# Altium integrated library RF Inductors-RFI_rev16a.intlib: 36 symbols
Pins are listed as number, name and electrical type; pins without a type are passive.

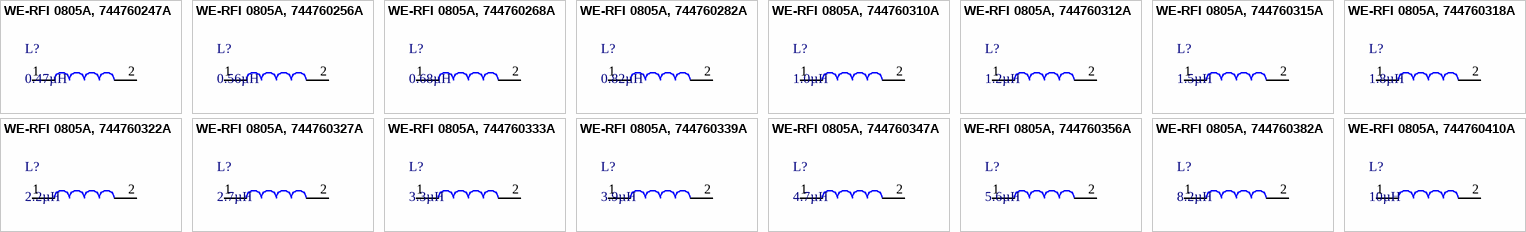
[diagram p0: symbols WE-RFI 0805A, 744760247A to WE-RFI 0805A, 744760410A]

## WE-RFI 0805A, 744760247A
designator L?, comment 0.47µH
WE-RFI Ferrite SMD Inductor, L= 0.47µH; partNo: 744760247A; Manufacturer: Wurth Elektronik; Inductance: 0.47µH; ComponentLink1Description: Manufacturer; ComponentLink1URL: http://www.we-online.de; Created by: Baojun Chen; Created Date: Jan.2016; ComponentLink2Description: Datasheet; ComponentLink2URL: http://katalog.we-online.de/pbs/datasheet/744760247A.pdf
footprint WE-RFI_0805A
pins: 1, 2

## WE-RFI 0805A, 744760256A
designator L?, comment 0.56µH
WE-RFI Ferrite SMD Inductor, L= 0.56µH; partNo: 744760256A; Manufacturer: Wurth Elektronik; Inductance: 0.56µH; ComponentLink1Description: Manufacturer; ComponentLink1URL: http://www.we-online.de; Created by: Baojun Chen; Created Date: Jan.2016; ComponentLink2Description: Datasheet; ComponentLink2URL: http://katalog.we-online.de/pbs/datasheet/744760256A.pdf
footprint WE-RFI_0805A
pins: 1, 2

## WE-RFI 0805A, 744760268A
designator L?, comment 0.68µH
WE-RFI Ferrite SMD Inductor, L= 0.68µH; partNo: 744760268A; Manufacturer: Wurth Elektronik; Inductance: 0.68µH; ComponentLink1Description: Manufacturer; ComponentLink1URL: http://www.we-online.de; Created by: Baojun Chen; Created Date: Jan.2016; ComponentLink2Description: Datasheet; ComponentLink2URL: http://katalog.we-online.de/pbs/datasheet/744760268A.pdf
footprint WE-RFI_0805A
pins: 1, 2

## WE-RFI 0805A, 744760282A
designator L?, comment 0.82µH
WE-RFI Ferrite SMD Inductor, L= 0.82µH; partNo: 744760282A; Manufacturer: Wurth Elektronik; Inductance: 0.82µH; ComponentLink1Description: Manufacturer; ComponentLink1URL: http://www.we-online.de; Created by: Baojun Chen; Created Date: Jan.2016; ComponentLink2Description: Datasheet; ComponentLink2URL: http://katalog.we-online.de/pbs/datasheet/744760282A.pdf
footprint WE-RFI_0805A
pins: 1, 2

## WE-RFI 0805A, 744760310A
designator L?, comment 1.0µH
WE-RFI Ferrite SMD Inductor, L= 1.0µH; partNo: 744760310A; Manufacturer: Wurth Elektronik; Inductance: 1.0µH; ComponentLink1Description: Manufacturer; ComponentLink1URL: http://www.we-online.de; Created by: Baojun Chen; Created Date: Jan.2016; ComponentLink2Description: Datasheet; ComponentLink2URL: http://katalog.we-online.de/pbs/datasheet/744760310A.pdf
footprint WE-RFI_0805A
pins: 1, 2

## WE-RFI 0805A, 744760312A
designator L?, comment 1.2µH
WE-RFI Ferrite SMD Inductor, L= 1.2µH; partNo: 744760312A; Manufacturer: Wurth Elektronik; Inductance: 1.2µH; ComponentLink1Description: Manufacturer; ComponentLink1URL: http://www.we-online.de; Created by: Baojun Chen; Created Date: Jan.2016; ComponentLink2Description: Datasheet; ComponentLink2URL: http://katalog.we-online.de/pbs/datasheet/744760312A.pdf
footprint WE-RFI_0805A
pins: 1, 2

## WE-RFI 0805A, 744760315A
designator L?, comment 1.5µH
WE-RFI Ferrite SMD Inductor, L= 1.5µH; partNo: 744760315A; Manufacturer: Wurth Elektronik; Inductance: 1.5µH; ComponentLink1Description: Manufacturer; ComponentLink1URL: http://www.we-online.de; Created by: Baojun Chen; Created Date: Jan.2016; ComponentLink2Description: Datasheet; ComponentLink2URL: http://katalog.we-online.de/pbs/datasheet/744760315A.pdf
footprint WE-RFI_0805A
pins: 1, 2

## WE-RFI 0805A, 744760318A
designator L?, comment 1.8µH
WE-RFI Ferrite SMD Inductor, L= 1.8µH; partNo: 744760318A; Manufacturer: Wurth Elektronik; Inductance: 1.8µH; ComponentLink1Description: Manufacturer; ComponentLink1URL: http://www.we-online.de; Created by: Baojun Chen; Created Date: Jan.2016; ComponentLink2Description: Datasheet; ComponentLink2URL: http://katalog.we-online.de/pbs/datasheet/744760318A.pdf
footprint WE-RFI_0805A
pins: 1, 2

## WE-RFI 0805A, 744760322A
designator L?, comment 2.2µH
WE-RFI Ferrite SMD Inductor, L= 2.2µH; partNo: 744760322A; Manufacturer: Wurth Elektronik; Inductance: 2.2µH; ComponentLink1Description: Manufacturer; ComponentLink1URL: http://www.we-online.de; Created by: Baojun Chen; Created Date: Jan.2016; ComponentLink2Description: Datasheet; ComponentLink2URL: http://katalog.we-online.de/pbs/datasheet/744760322A.pdf
footprint WE-RFI_0805A
pins: 1, 2

## WE-RFI 0805A, 744760327A
designator L?, comment 2.7µH
WE-RFI Ferrite SMD Inductor, L= 2.7µH; partNo: 744760327A; Manufacturer: Wurth Elektronik; Inductance: 2.7µH; ComponentLink1Description: Manufacturer; ComponentLink1URL: http://www.we-online.de; Created by: Baojun Chen; Created Date: Jan.2016; ComponentLink2Description: Datasheet; ComponentLink2URL: http://katalog.we-online.de/pbs/datasheet/744760327A.pdf
footprint WE-RFI_0805A
pins: 1, 2

## WE-RFI 0805A, 744760333A
designator L?, comment 3.3µH
WE-RFI Ferrite SMD Inductor, L= 3.3µH; partNo: 744760333A; Manufacturer: Wurth Elektronik; Inductance: 3.3µH; ComponentLink1Description: Manufacturer; ComponentLink1URL: http://www.we-online.de; Created by: Baojun Chen; Created Date: Jan.2016; ComponentLink2Description: Datasheet; ComponentLink2URL: http://katalog.we-online.de/pbs/datasheet/744760333A.pdf
footprint WE-RFI_0805A
pins: 1, 2

## WE-RFI 0805A, 744760339A
designator L?, comment 3.9µH
WE-RFI Ferrite SMD Inductor, L= 3.9µH; partNo: 744760339A; Manufacturer: Wurth Elektronik; Inductance: 3.9µH; ComponentLink1Description: Manufacturer; ComponentLink1URL: http://www.we-online.de; Created by: Baojun Chen; Created Date: Jan.2016; ComponentLink2Description: Datasheet; ComponentLink2URL: http://katalog.we-online.de/pbs/datasheet/744760339A.pdf
footprint WE-RFI_0805A
pins: 1, 2

## WE-RFI 0805A, 744760347A
designator L?, comment 4.7µH
WE-RFI Ferrite SMD Inductor, L= 4.7µH; partNo: 744760347A; Manufacturer: Wurth Elektronik; Inductance: 4.7µH; ComponentLink1Description: Manufacturer; ComponentLink1URL: http://www.we-online.de; Created by: Baojun Chen; Created Date: Jan.2016; ComponentLink2Description: Datasheet; ComponentLink2URL: http://katalog.we-online.de/pbs/datasheet/744760347A.pdf
footprint WE-RFI_0805A
pins: 1, 2

## WE-RFI 0805A, 744760356A
designator L?, comment 5.6µH
WE-RFI Ferrite SMD Inductor, L= 5.6µH; partNo: 744760356A; Manufacturer: Wurth Elektronik; Inductance: 5.6µH; ComponentLink1Description: Manufacturer; ComponentLink1URL: http://www.we-online.de; Created by: Baojun Chen; Created Date: Jan.2016; ComponentLink2Description: Datasheet; ComponentLink2URL: http://katalog.we-online.de/pbs/datasheet/744760356A.pdf
footprint WE-RFI_0805A
pins: 1, 2

## WE-RFI 0805A, 744760382A
designator L?, comment 8.2µH
WE-RFI Ferrite SMD Inductor, L= 8.2µH; partNo: 744760382A; Manufacturer: Wurth Elektronik; Inductance: 8.2µH; ComponentLink1Description: Manufacturer; ComponentLink1URL: http://www.we-online.de; Created by: Baojun Chen; Created Date: Jan.2016; ComponentLink2Description: Datasheet; ComponentLink2URL: http://katalog.we-online.de/pbs/datasheet/744760382A.pdf
footprint WE-RFI_0805A
pins: 1, 2

## WE-RFI 0805A, 744760410A
designator L?, comment 10µH
WE-RFI Ferrite SMD Inductor, L= 10µH; partNo: 744760410A; Manufacturer: Wurth Elektronik; Inductance: 10µH; ComponentLink1Description: Manufacturer; ComponentLink1URL: http://www.we-online.de; Created by: Baojun Chen; Created Date: Jan.2016; ComponentLink2Description: Datasheet; ComponentLink2URL: http://katalog.we-online.de/pbs/datasheet/744760410A.pdf
footprint WE-RFI_0805A
pins: 1, 2


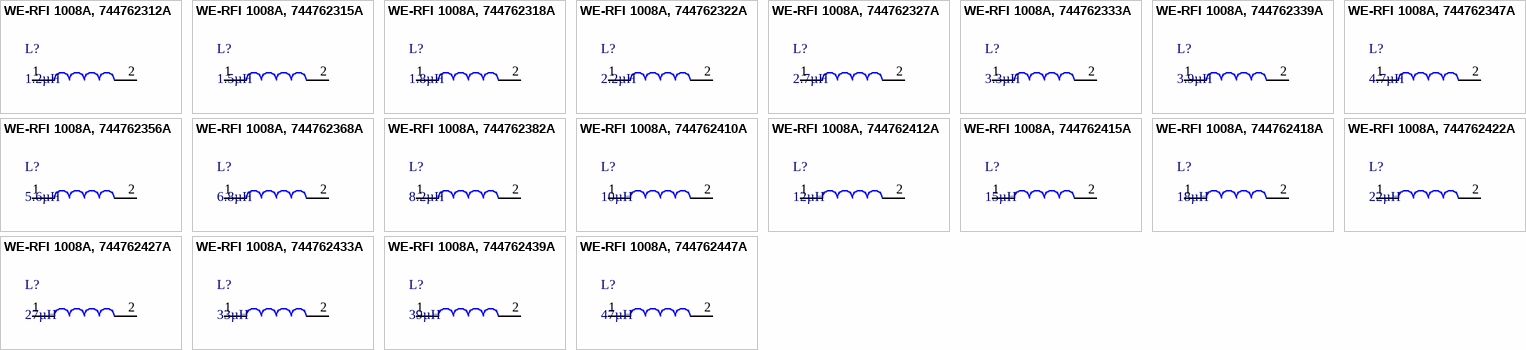
[diagram p1: symbols WE-RFI 1008A, 744762312A to WE-RFI 1008A, 744762447A]

## WE-RFI 1008A, 744762312A
designator L?, comment 1.2µH
WE-RFI Ferrite SMD Inductor, L= 1.2µH; partNo: 744762312A; Manufacturer: Wurth Elektronik; Inductance: 1.2µH; ComponentLink1Description: Manufacturer; ComponentLink1URL: http://www.we-online.de; Created by: Baojun Chen; Created Date: Jan.2016; ComponentLink2Description: Datasheet; ComponentLink2URL: http://katalog.we-online.de/pbs/datasheet/744762312A.pdf
footprint WE-RFI_1008A
pins: 1, 2

## WE-RFI 1008A, 744762315A
designator L?, comment 1.5µH
WE-RFI Ferrite SMD Inductor, L= 1.5µH; partNo: 744762315A; Manufacturer: Wurth Elektronik; Inductance: 1.5µH; ComponentLink1Description: Manufacturer; ComponentLink1URL: http://www.we-online.de; Created by: Baojun Chen; Created Date: Jan.2016; ComponentLink2Description: Datasheet; ComponentLink2URL: http://katalog.we-online.de/pbs/datasheet/744762315A.pdf
footprint WE-RFI_1008A
pins: 1, 2

## WE-RFI 1008A, 744762318A
designator L?, comment 1.8µH
WE-RFI Ferrite SMD Inductor, L= 1.8µH; partNo: 744762318A; Manufacturer: Wurth Elektronik; Inductance: 1.8µH; ComponentLink1Description: Manufacturer; ComponentLink1URL: http://www.we-online.de; Created by: Baojun Chen; Created Date: Jan.2016; ComponentLink2Description: Datasheet; ComponentLink2URL: http://katalog.we-online.de/pbs/datasheet/744762318A.pdf
footprint WE-RFI_1008A
pins: 1, 2

## WE-RFI 1008A, 744762322A
designator L?, comment 2.2µH
WE-RFI Ferrite SMD Inductor, L= 2.2µH; partNo: 744762322A; Manufacturer: Wurth Elektronik; Inductance: 2.2µH; ComponentLink1Description: Manufacturer; ComponentLink1URL: http://www.we-online.de; Created by: Baojun Chen; Created Date: Jan.2016; ComponentLink2Description: Datasheet; ComponentLink2URL: http://katalog.we-online.de/pbs/datasheet/744762322A.pdf
footprint WE-RFI_1008A
pins: 1, 2

## WE-RFI 1008A, 744762327A
designator L?, comment 2.7µH
WE-RFI Ferrite SMD Inductor, L= 2.7µH; partNo: 744762327A; Manufacturer: Wurth Elektronik; Inductance: 2.7µH; ComponentLink1Description: Manufacturer; ComponentLink1URL: http://www.we-online.de; Created by: Baojun Chen; Created Date: Jan.2016; ComponentLink2Description: Datasheet; ComponentLink2URL: http://katalog.we-online.de/pbs/datasheet/744762327A.pdf
footprint WE-RFI_1008A
pins: 1, 2

## WE-RFI 1008A, 744762333A
designator L?, comment 3.3µH
WE-RFI Ferrite SMD Inductor, L= 3.3µH; partNo: 744762333A; Manufacturer: Wurth Elektronik; Inductance: 3.3µH; ComponentLink1Description: Manufacturer; ComponentLink1URL: http://www.we-online.de; Created by: Baojun Chen; Created Date: Jan.2016; ComponentLink2Description: Datasheet; ComponentLink2URL: http://katalog.we-online.de/pbs/datasheet/744762333A.pdf
footprint WE-RFI_1008A
pins: 1, 2

## WE-RFI 1008A, 744762339A
designator L?, comment 3.9µH
WE-RFI Ferrite SMD Inductor, L= 3.9µH; partNo: 744762339A; Manufacturer: Wurth Elektronik; Inductance: 3.9µH; ComponentLink1Description: Manufacturer; ComponentLink1URL: http://www.we-online.de; Created by: Baojun Chen; Created Date: Jan.2016; ComponentLink2Description: Datasheet; ComponentLink2URL: http://katalog.we-online.de/pbs/datasheet/744762339A.pdf
footprint WE-RFI_1008A
pins: 1, 2

## WE-RFI 1008A, 744762347A
designator L?, comment 4.7µH
WE-RFI Ferrite SMD Inductor, L= 4.7µH; partNo: 744762347A; Manufacturer: Wurth Elektronik; Inductance: 4.7µH; ComponentLink1Description: Manufacturer; ComponentLink1URL: http://www.we-online.de; Created by: Baojun Chen; Created Date: Jan.2016; ComponentLink2Description: Datasheet; ComponentLink2URL: http://katalog.we-online.de/pbs/datasheet/744762347A.pdf
footprint WE-RFI_1008A
pins: 1, 2

## WE-RFI 1008A, 744762356A
designator L?, comment 5.6µH
WE-RFI Ferrite SMD Inductor, L= 5.6µH; partNo: 744762356A; Manufacturer: Wurth Elektronik; Inductance: 5.6µH; ComponentLink1Description: Manufacturer; ComponentLink1URL: http://www.we-online.de; Created by: Baojun Chen; Created Date: Jan.2016; ComponentLink2Description: Datasheet; ComponentLink2URL: http://katalog.we-online.de/pbs/datasheet/744762356A.pdf
footprint WE-RFI_1008A
pins: 1, 2

## WE-RFI 1008A, 744762368A
designator L?, comment 6.8µH
WE-RFI Ferrite SMD Inductor, L= 6.8µH; partNo: 744762368A; Manufacturer: Wurth Elektronik; Inductance: 6.8µH; ComponentLink1Description: Manufacturer; ComponentLink1URL: http://www.we-online.de; Created by: Baojun Chen; Created Date: Jan.2016; ComponentLink2Description: Datasheet; ComponentLink2URL: http://katalog.we-online.de/pbs/datasheet/744762368A.pdf
footprint WE-RFI_1008A
pins: 1, 2

## WE-RFI 1008A, 744762382A
designator L?, comment 8.2µH
WE-RFI Ferrite SMD Inductor, L= 8.2µH; partNo: 744762382A; Manufacturer: Wurth Elektronik; Inductance: 8.2µH; ComponentLink1Description: Manufacturer; ComponentLink1URL: http://www.we-online.de; Created by: Baojun Chen; Created Date: Jan.2016; ComponentLink2Description: Datasheet; ComponentLink2URL: http://katalog.we-online.de/pbs/datasheet/744762382A.pdf
footprint WE-RFI_1008A
pins: 1, 2

## WE-RFI 1008A, 744762410A
designator L?, comment 10µH
WE-RFI Ferrite SMD Inductor, L= 10µH; partNo: 744762410A; Manufacturer: Wurth Elektronik; Inductance: 10µH; ComponentLink1Description: Manufacturer; ComponentLink1URL: http://www.we-online.de; Created by: Baojun Chen; Created Date: Jan.2016; ComponentLink2Description: Datasheet; ComponentLink2URL: http://katalog.we-online.de/pbs/datasheet/744762410A.pdf
footprint WE-RFI_1008A
pins: 1, 2

## WE-RFI 1008A, 744762412A
designator L?, comment 12µH
WE-RFI Ferrite SMD Inductor, L= 12µH; partNo: 744762412A; Manufacturer: Wurth Elektronik; Inductance: 12µH; ComponentLink1Description: Manufacturer; ComponentLink1URL: http://www.we-online.de; Created by: Baojun Chen; Created Date: Jan.2016; ComponentLink2Description: Datasheet; ComponentLink2URL: http://katalog.we-online.de/pbs/datasheet/744762412A.pdf
footprint WE-RFI_1008A
pins: 1, 2

## WE-RFI 1008A, 744762415A
designator L?, comment 15µH
WE-RFI Ferrite SMD Inductor, L= 15µH; partNo: 744762415A; Manufacturer: Wurth Elektronik; Inductance: 15µH; ComponentLink1Description: Manufacturer; ComponentLink1URL: http://www.we-online.de; Created by: Baojun Chen; Created Date: Jan.2016; ComponentLink2Description: Datasheet; ComponentLink2URL: http://katalog.we-online.de/pbs/datasheet/744762415A.pdf
footprint WE-RFI_1008A
pins: 1, 2

## WE-RFI 1008A, 744762418A
designator L?, comment 18µH
WE-RFI Ferrite SMD Inductor, L= 18µH; partNo: 744762418A; Manufacturer: Wurth Elektronik; Inductance: 18µH; ComponentLink1Description: Manufacturer; ComponentLink1URL: http://www.we-online.de; Created by: Baojun Chen; Created Date: Jan.2016; ComponentLink2Description: Datasheet; ComponentLink2URL: http://katalog.we-online.de/pbs/datasheet/744762418A.pdf
footprint WE-RFI_1008A
pins: 1, 2

## WE-RFI 1008A, 744762422A
designator L?, comment 22µH
WE-RFI Ferrite SMD Inductor, L= 22µH; partNo: 744762422A; Manufacturer: Wurth Elektronik; Inductance: 22µH; ComponentLink1Description: Manufacturer; ComponentLink1URL: http://www.we-online.de; Created by: Baojun Chen; Created Date: Jan.2016; ComponentLink2Description: Datasheet; ComponentLink2URL: http://katalog.we-online.de/pbs/datasheet/744762422A.pdf
footprint WE-RFI_1008A
pins: 1, 2

## WE-RFI 1008A, 744762427A
designator L?, comment 27µH
WE-RFI Ferrite SMD Inductor, L= 27µH; partNo: 744762427A; Manufacturer: Wurth Elektronik; Inductance: 27µH; ComponentLink1Description: Manufacturer; ComponentLink1URL: http://www.we-online.de; Created by: Baojun Chen; Created Date: Jan.2016; ComponentLink2Description: Datasheet; ComponentLink2URL: http://katalog.we-online.de/pbs/datasheet/744762427A.pdf
footprint WE-RFI_1008A
pins: 1, 2

## WE-RFI 1008A, 744762433A
designator L?, comment 33µH
WE-RFI Ferrite SMD Inductor, L= 33µH; partNo: 744762433A; Manufacturer: Wurth Elektronik; Inductance: 33µH; ComponentLink1Description: Manufacturer; ComponentLink1URL: http://www.we-online.de; Created by: Baojun Chen; Created Date: Jan.2016; ComponentLink2Description: Datasheet; ComponentLink2URL: http://katalog.we-online.de/pbs/datasheet/744762433A.pdf
footprint WE-RFI_1008A
pins: 1, 2

## WE-RFI 1008A, 744762439A
designator L?, comment 39µH
WE-RFI Ferrite SMD Inductor, L= 39µH; partNo: 744762439A; Manufacturer: Wurth Elektronik; Inductance: 39µH; ComponentLink1Description: Manufacturer; ComponentLink1URL: http://www.we-online.de; Created by: Baojun Chen; Created Date: Jan.2016; ComponentLink2Description: Datasheet; ComponentLink2URL: http://katalog.we-online.de/pbs/datasheet/744762439A.pdf
footprint WE-RFI_1008A
pins: 1, 2

## WE-RFI 1008A, 744762447A
designator L?, comment 47µH
WE-RFI Ferrite SMD Inductor, L= 47µH; partNo: 744762447A; Manufacturer: Wurth Elektronik; Inductance: 47µH; ComponentLink1Description: Manufacturer; ComponentLink1URL: http://www.we-online.de; Created by: Baojun Chen; Created Date: Jan.2016; ComponentLink2Description: Datasheet; ComponentLink2URL: http://katalog.we-online.de/pbs/datasheet/744762447A.pdf
footprint WE-RFI_1008A
pins: 1, 2